# EAGLE library part MOT_DRV8836 (library parts_v25)
1.5A Low Voltage Stepper or Single/Dual Brushed DC Motor Driver (PWM or PH/EN Ctrl) Source: Datasheet <http://www.ti.com/lit/gpn/drv8836>
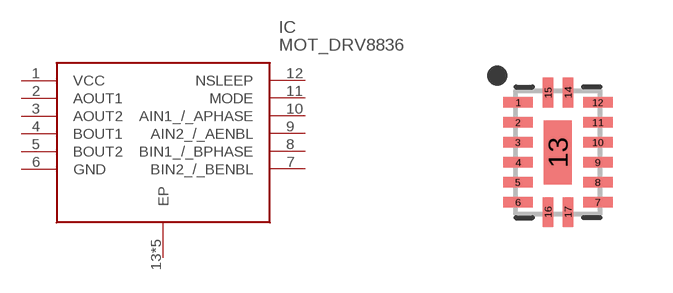
[diagram p0: symbol with the pads of DRV8836; footprint DRV8836]

Designator prefix IC

## MOT_DRV88361 (DESCRIPTION: 1.5A Low Voltage Stepper or Single/Dual Brushed DC Motor Driver (PWM or PH/EN Ctrl); HEIGHT: 0.8mm; MANUFACTURER_NAME: Texas Instruments; MANUFACTURER_PART_NUMBER: DRV8836DSSR; MOUSER_PART_NUMBER: 595-DRV8836DSSR)  [DRV8836]
1  VCC
2  AOUT1
3  AOUT2
4  BOUT1
5  BOUT2
6  GND
7  BIN2_/_BENBL
8  BIN1_/_BPHASE
9  AIN2_/_AENBL
10  AIN1_/_APHASE
11  MODE
12  NSLEEP
13  EP
14  EP
15  EP
16  EP
17  EP

## Footprint DRV8836 (pad centres in mm)
16-QFN, 0.50 mm pitch, 2.00 X 3.00 X 0.80 mm body, 0.70 X 1.60 mm thermal pad 16-pin QFN package with 0.50 mm pitch with body size 2.00 X 3.00 X 0.80 mm and thermal pad size 0.70 X 1.60 mm
smd 0.738 x 0.27: 1 -0.996,1.25; 2 -0.996,0.75; 3 -0.996,0.25; 4 -0.996,-0.25; 5 -0.996,-0.75; 6 -0.996,-1.25; 7 0.996,-1.25; 8 0.996,-0.75; 9 0.996,-0.25; 10 0.996,0.25; 11 0.996,0.75; 12 0.996,1.25
smd 0.7 x 1.6: 13 0,0
smd 0.27 x 0.738: 14 0.25,1.496; 15 -0.25,1.496; 16 -0.25,-1.496; 17 0.25,-1.496